# Altium footprint library LM2576D2TR4-5G.PCBLIB: 1 footprints
Each footprint in its own frame and in the unit in brackets; x right, y up, seen from the top. Pads: shape width x height; smd on the part's side, far side on the other; paste and mask are expansions set on the pad; w line width, h text height; cw(c..) or ccw(c..) is an arc to the next point about the centre after c.
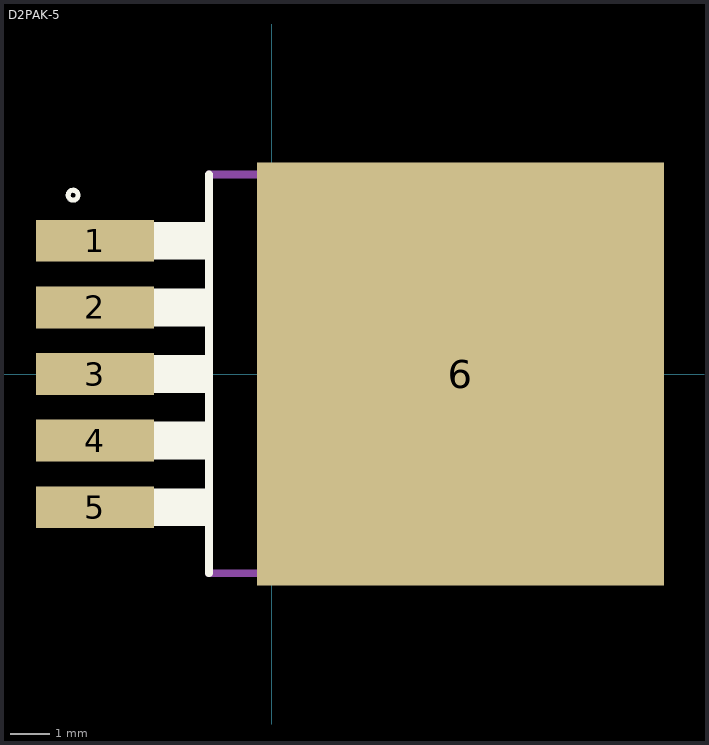
[diagram p0: the footprint, top view; thin cyan lines are the x and y axes]

## D2PAK-5 [mil]
pads (6):
  rect 119x42 smd: 1(-178,134) 2(-178,67) 3(-178,0) 4(-178,-67) 5(-178,-134)
  rect 410x426 smd: 6(190,0)
Top Overlay:
  circle w5: c-200,180 r5
  region: -126,153 -126,115 -60,115 -60,153
  region: -126,86 -126,48 -60,48 -60,86
  region: -126,19 -126,-19 -60,-19 -60,19
  region: -126,-48 -126,-86 -60,-86 -60,-48
  region: -126,-115 -126,-153 -60,-153 -60,-115
  lines w8: -63.39,-200.55 -63.39,201
Mechanical 16:
  region: -210,153.5 -210,115.5 -125,115.5 -125,153.5
  region: -210,86.5 -210,48.5 -125,48.5 -125,86.5
  region: -210.25,19.25 -210.25,-18.75 -124.75,-18.75 -124.75,19.25
  region: -210,-48 -210,-86 -125,-86 -125,-48
  region: -210,-115 -210,-153 -125,-153 -125,-115
  region: 0,0 10,0 10,10 0,10
  lines w8: -63.39,-200.55 333,-200.55 333,201 -63.39,201 ; 337,-200.98 353,-200.98 371,-132.99 371,133 353,201 337,201 337,-200.98